# Altium schematic symbol library ife18_TS_BMS_LTC6813_v2_Library.SchLib: 15 symbols
Pins are listed as number, name and electrical type; pins without a type are passive.

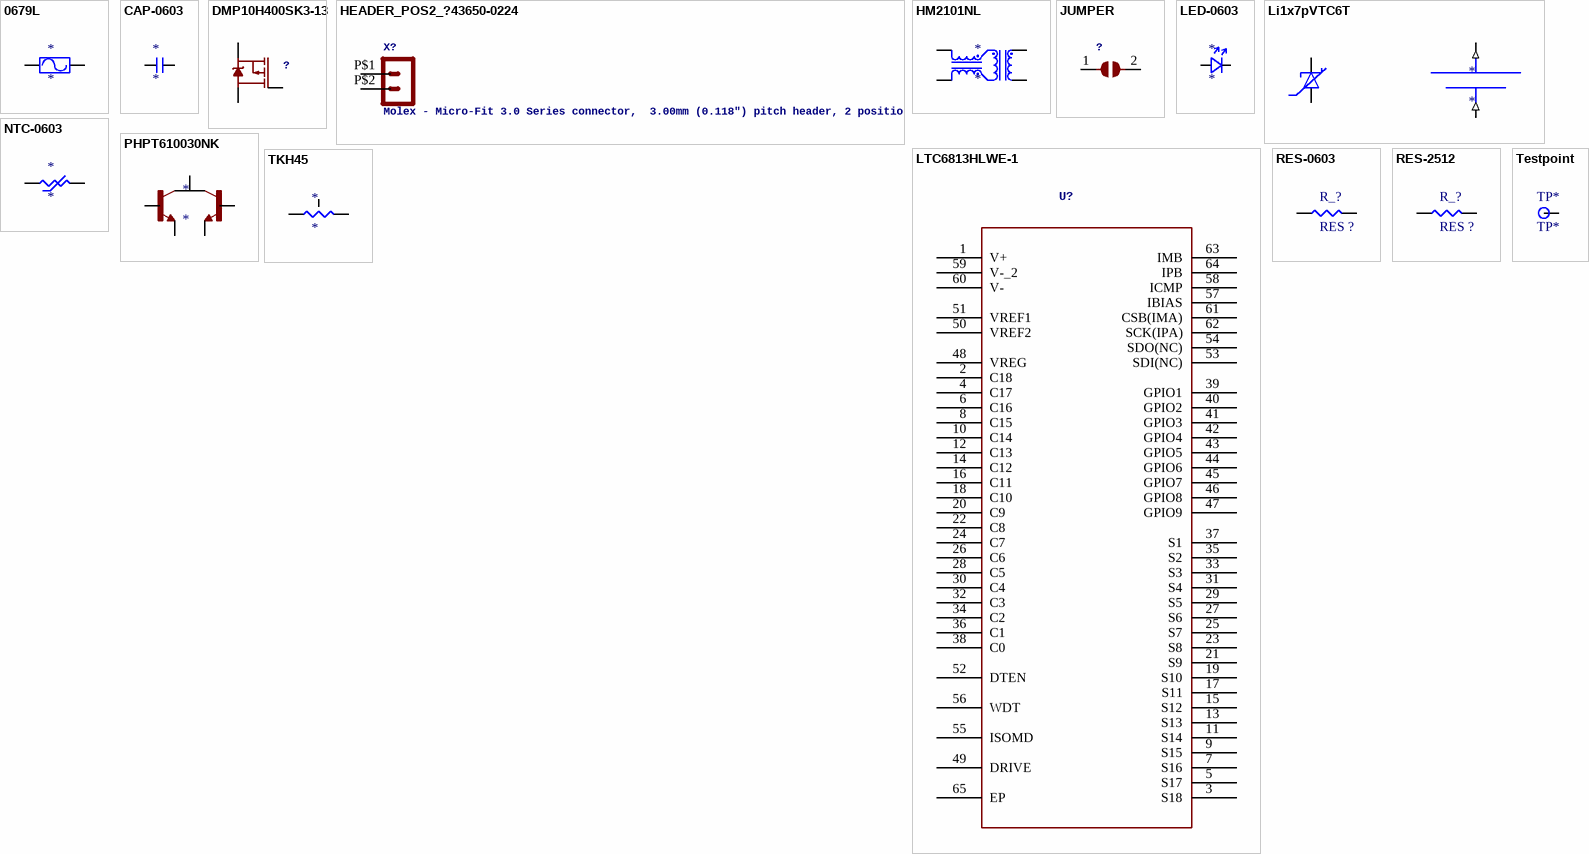
[diagram p0: symbols 0679L to TKH45]

## 0679L
designator *
footprint 2410SMD
pins: 1, 2

## CAP-0603
designator *
footprint CAP-0603
pins: 1, 2

## DMP10H400SK3-13
designator ?
GateName_1: G$1; SymbolName_1: LABELED-PMOS; DeviceSetName: DMP10H400SK3-13; LibraryName: IFE_Transistors; Package: TO252
footprint TO252
pins: 1 G, 2 D, 3 S

## HEADER_POS2_?43650-0224
designator X?, comment Molex - Micro-Fit 3.0 Series connector,  3.00mm (0.118") pitch header, 2 positions.
GateName_1: G$1; SymbolName_1: HEADER_POS2; DeviceName: 43650-0224; DeviceSetName: HEADER_POS2_?; LibraryName: MOLEX Micro-Fit; Package: 43650-0224
footprint 43650-0224
pins: P$1 1, P$2 2

## HM2101NL
designator *
footprint HM2101
pins: 1, 3, 4, 6

## JUMPER
designator ?
GateName_1: G$1; SymbolName_1: SJ; DeviceSetName: JUMPER; LibraryName: IFE_Jumpers; Package: SJ
footprint SJ
pins: 1, 2

## LED-0603
designator *
footprint LED-0603
pins: A, K

## Li1x7pVTC6T
designator *
footprint Li1x7pVTC6T
pins: + (out), - (in), T+, T-

## LTC6813HLWE-1
designator U?
GateName_1: A; SymbolName_1: LTC6813XLWE-1; DeviceSetName: LTC6813HLWE-1; LibraryName: LTC6813_Official; Package: LQFP64_LWE_A
footprint LQFP64_LWE_A
pins: 1 V+, 2 C18, 3 S18, 4 C17, 5 S17, 6 C16, 7 S16, 8 C15, 9 S15, 10 C14, 11 S14, 12 C13, 13 S13, 14 C12, 15 S12, 16 C11, 17 S11, 18 C10, 19 S10, 20 C9, 21 S9, 22 C8, 23 S8, 24 C7, 25 S7, 26 C6, 27 S6, 28 C5, 29 S5, 30 C4, 31 S4, 32 C3, 33 S3, 34 C2, 35 S2, 36 C1, 37 S1, 38 C0, 39 GPIO1, 40 GPIO2, 41 GPIO3, 42 GPIO4, 43 GPIO5, 44 GPIO6, 45 GPIO7, 46 GPIO8, 47 GPIO9, 48 VREG, 49 DRIVE, 50 VREF2, 51 VREF1, 52 DTEN, 53 SDI(NC), 54 SDO(NC), 55 ISOMD, 56 WDT, 57 IBIAS, 58 ICMP, 59 V-_2, 60 V-, 61 CSB(IMA), 62 SCK(IPA), 63 IMB, 64 IPB, 65 EP

## NTC-0603
designator *
footprint NTC-0603
pins: 1, 2

## PHPT610030NK
designator *
footprint LFPAK56D
pins: B1 B, B2 B, C, E1 E, E2 E

## RES-0603
designator R_?, comment RES ?
footprint RES-0603
pins: 1, 2

## RES-2512
designator R_?, comment RES ?
footprint RES-2512
pins: 1, 2

## Testpoint
designator TP*, comment TP*
footprint Testpoint
pins: 1

## TKH45
designator *
footprint TO252-TKH-45
pins: 1, 2, 3